# EAGLE library part LEVEL_SHIFTER (library TempControl)
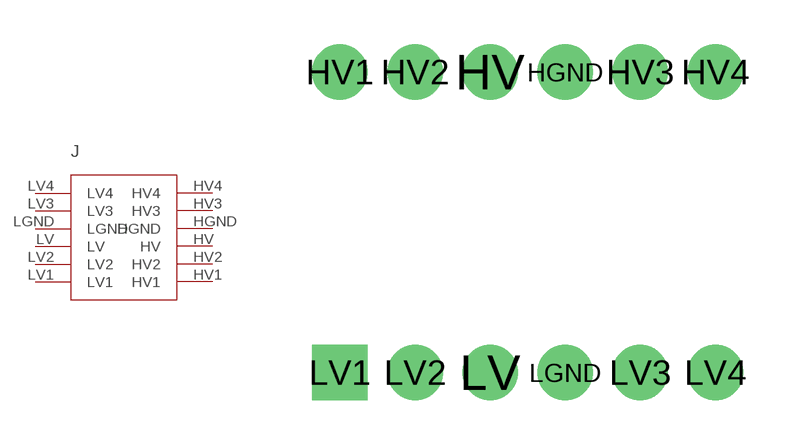
[diagram p3: symbol with the pads of LEVEL_SHIFTER; footprint LEVEL_SHIFTER]

Designator prefix J

## LEVEL_SHIFTER  [LEVEL_SHIFTER]
HGND  HGND
HV  HV
HV1  HV1
HV2  HV2
HV3  HV3
HV4  HV4
LGND  LGND
LV  LV
LV1  LV1
LV2  LV2
LV3  LV3
LV4  LV4

## Footprint LEVEL_SHIFTER (pad centres in mm)
drill 1.016 pad 1.88: HGND 7.62,10.16; HV 5.08,10.16; HV1 0,10.16; HV2 2.54,10.16; HV3 10.16,10.16; HV4 12.7,10.16; LGND 7.62,0; LV 5.08,0; LV2 2.54,0; LV3 10.16,0; LV4 12.7,0
drill 1.016 pad 1.88 square: LV1 0,0